# Altium schematic symbol library OBDII_CUBE.SCHLIB: 24 symbols
Pins are listed as number, name and electrical type; pins without a type are passive.

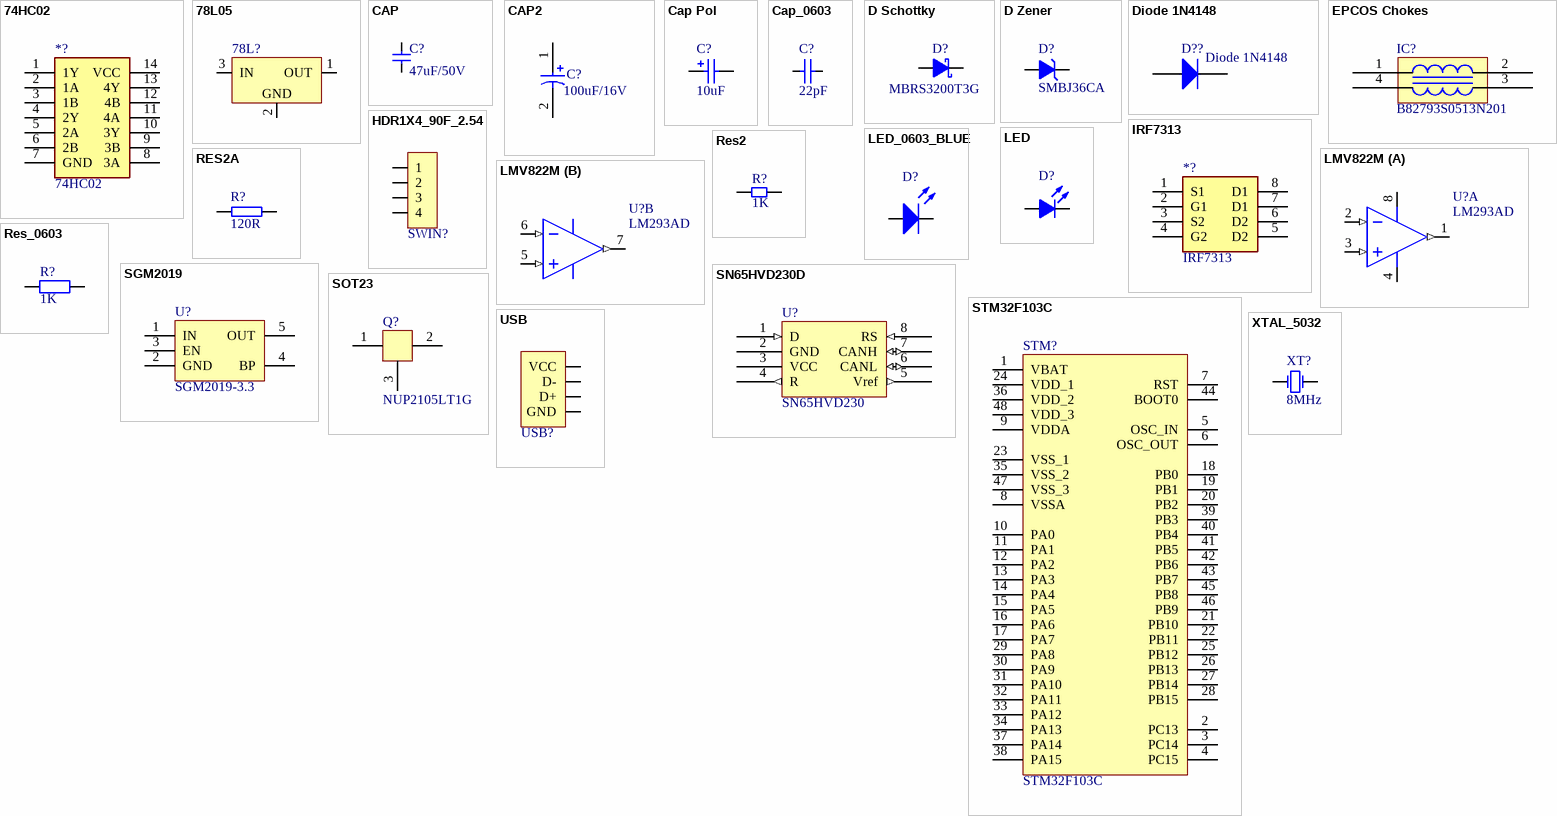
[diagram p0: symbols 74HC02 to XTAL_5032]

## 74HC02
designator *?
pins: 1 1Y, 2 1A, 3 1B, 4 2Y, 5 2A, 6 2B, 7 GND, 8 3A, 9 3B, 10 3Y, 11 4A, 12 4B, 13 4Y, 14 VCC

## 78L05
designator 78L?, comment AMS1117-5  (value not drawn)
Power
footprint SOT89-3L
pins: 1 OUT (power), 2 GND (power), 3 IN (power)

## CAP
designator C?, comment 47uF/50V
footprint 1812C
pins: 1, 2

## CAP2
designator C?, comment 100uF/16V
钽电容C
footprint CAPTANC
footprint 7445 (D型钽电容)
pins: 1, 2

## Cap Pol
designator C?, comment 10uF
Polarized Capacitor (Radial); Published: 8-Jun-2000; LatestRevisionDate: 17-Jul-2002; LatestRevisionNote: Re-released for DXP Platform.; Publisher: Altium Limited; Value: 10uF
footprint CAPTANC
footprint CAP-50V4.7uF
footprint TA-B (3.5mm*2.8mm)
footprint TA-E (7.3mm*4.3mm)
footprint CAP-25V100uF (C-16V100uF)
footprint CAP-16V1000uF (直径10mm，脚间距约5.08mm)
footprint CAP-50V10uF
footprint CAP-50V100uF (Capacitor, Electrolytic, Radial; Body 8 x 11.5 mm (Dia.xH typ); Pin Spacing 3.5 mm (typ))
footprint E1000uF
footprint TA-C (6.0mm*3.2mm*2.8mm)
footprint CAP-330mF
footprint HLC - 1520
footprint CAP_D6.3 (D6.3, Height=5.3 or 7.7 mm)
footprint CAP_D10
pins: 1, 2
1 alternate drawing of the same symbol

## Cap_0603
designator C?  value 22pF  (hidden comment: Cap_0603)
Capacitor
footprint 0603C
pins: 1, 2

## D Schottky
designator D?, comment MBRS3200T3G
Schottky Diode; Published: 8-Jun-2000; LatestRevisionDate: 17-Jul-2002; LatestRevisionNote: Re-released for DXP Platform.; Publisher: Altium Limited; Code_JEDEC: DO-214-AA
simulation model SKYDIODE (Diode)
signal-integrity model D Schottky
footprint SMA (DO-214-AA/SMB; 2 C-Bend Leads; Body 5.3 x 2.54 mm, inc. leads (LxW))
footprint DO-214AC (DO-214-AA/SMB; 2 C-Bend Leads; Body 5.3 x 2.54 mm, inc. leads (LxW))
footprint S_DIODE
footprint SMC-2
footprint SOD-123
footprint 1N4148_SMALL
footprint 1N5824
footprint DO-214AA
pins: 1 A, 2 K

## D Zener
designator D?, comment SMBJ36CA
Zener Diode; Published: 8-Jun-2000; LatestRevisionDate: 17-Jul-2002; LatestRevisionNote: Re-released for DXP Platform.; Publisher: Altium Limited
simulation model ZENER (Diode)
signal-integrity model D Zener
footprint DO-214AA
footprint DIODE-08
footprint DIODE-10
footprint CD3216-1206 (Chip Diode; Body 3.2 x 1.6 mm (LxW typ))
footprint D1812
pins: 1 A, 2 K

## Diode 1N4148
designator D??
High Conductance Fast Diode; Published: 8-Jun-2000; LatestRevisionDate: 17-Jul-2002; LatestRevisionNote: Re-released for DXP Platform.; DatasheetVersion: 1997; PackageReference: DO-35; Publisher: Altium Limited; PackageDescription: Diode, Axial; Body 3.8 x 1.9 mm (LxDia. max), Lead Dia. 0.53 mm (max); Code_JEDEC: DO-204-AH; ComponentLink1Description: Manufacturer Link; ComponentLink1URL: http://www.fairchildsemi.com/; ComponentLink2Description: Datasheet; ComponentLink2URL: http://www.fairchildsemi.com/ds/1N%2F1N4148.pdf
footprint DO-35 (Diode, Axial; Body 3.8 x 1.9 mm (LxDia. max), Lead Dia. 0.53 mm (max))
simulation model 1N4148 (DIODE)
signal-integrity model 1N4148
pins: 1 A, 2 K

## EPCOS Chokes
designator IC?, comment B82793S0513N201
Common-mode chokes, ring core
footprint EPCOS_Chokes
pins: 1, 2, 3, 4
2 alternate drawings of the same symbol

## HDR1X4_90F_2.54
designator SWIN?  (value not drawn)
Header
footprint HDR1X4_90F_2.54 (Connector; Header; 2 Position)
pins: 1, 2, 3, 4

## IRF7313
designator *?
pins: 1 S1, 2 G1, 3 S2, 4 G2, 5 D2, 6 D2, 7 D1, 8 D1

## LED
designator D?  (value not drawn)
Typical INFRARED GaAs LED; Published: 8-Jun-2000; LatestRevisionDate: 17-Jul-2002; LatestRevisionNote: Re-released for DXP Platform.; Publisher: Altium Limited
simulation model LED0 (Diode)
footprint LED-2P_Beta
footprint LED-0805
footprint LED-0603
pins: 1 A, 2 K

## LED_0603_BLUE
designator D?  (value not drawn)
LED
footprint LED_0603_BLUE (Chip Capacitor, 2-Leads, Body 1.6x0.8mm, IPC Medium Density)
pins: 1 A, 2 K

## LMV822M
designator U?, comment LM293AD
Fast Settling Dual Operational Amplifier
footprint SOP8
part A pins: 1 OUT1 (out), 2 IN1- (in), 3 IN1+ (in), 4 V- (power), 8 V+ (power)
part B pins: 5 IN2+ (in), 6 IN2- (in), 7 OUT2 (out)

## Res2
designator R?, comment 1K
Resistor; Published: 8-Jun-2000; LatestRevisionDate: 17-Jul-2002; LatestRevisionNote: Re-released for DXP Platform.; Publisher: Altium Limited; Value: 1K
footprint 1206R (Footprint not found)
pins: 1, 2

## RES2A
designator R?, comment 120R
footprint 0603R
pins: 1, 2

## Res_0603
designator R?  value 1K  (hidden comment: Res_0603)
Resistor
footprint 0603R
pins: 1, 2

## SGM2019
designator U?, comment SGM2019-3.3
footprint SOT23-5
pins: 1 IN, 2 GND, 3 EN, 4 BP, 5 OUT

## SN65HVD230D
designator U?, comment SN65HVD230
footprint SOP8
pins: 1 D (in), 2 GND (power), 3 VCC (power), 4 R (out), 5 Vref (out), 6 CANL (io), 7 CANH (io), 8 RS (in)

## SOT23
designator Q?, comment NUP2105LT1G
footprint SOT23
pins: 1, 2, 3

## STM32F103C
designator STM?
MCU
footprint STM32F_48 (TSQFP, 48-Leads, Body 9.0x9.0mm (max), Pitch 0.50mm, IPC Medium Density)
pins: 1 VBAT, 2 PC13, 3 PC14, 4 PC15, 5 OSC_IN, 6 OSC_OUT, 7 RST, 8 VSSA, 9 VDDA, 10 PA0, 11 PA1, 12 PA2, 13 PA3, 14 PA4, 15 PA5, 16 PA6, 17 PA7, 18 PB0, 19 PB1, 20 PB2, 21 PB10, 22 PB11, 23 VSS_1, 24 VDD_1, 25 PB12, 26 PB13, 27 PB14, 28 PB15, 29 PA8, 30 PA9, 31 PA10, 32 PA11, 33 PA12, 34 PA13, 35 VSS_2, 36 VDD_2, 37 PA14, 38 PA15, 39 PB3, 40 PB4, 41 PB5, 42 PB6, 43 PB7, 44 BOOT0, 45 PB8, 46 PB9, 47 VSS_3, 48 VDD_3

## USB
designator USB?  (value not drawn)
footprint USB (Connector; USB1.1, Type A, SM; 4 Position; Right Angle)
pins: 1 VCC, 2 D-, 3 D+, 4 GND

## XTAL_5032
designator XT?  value 8MHz  (hidden comment: XTAL_5032)
Crystal Oscillator; Published: 8-Jun-2000; LatestRevisionDate: 17-Jul-2002; LatestRevisionNote: Re-released for DXP Platform.; PackageReference: R38; Publisher: Altium Limited; PackageDescription: Crystal, Thru-Hole; 2 Leads; Body 3.1 x 8.2 mm (Dia.xH)
footprint XTAL_5032 (Molded Capacitor, 2-Leads, Body 5.0x3.2mm, IPC Medium Density)
simulation model XTAL (Spice Subcircuit)
pins: 1 OSC1, 2 OSC2